# EAGLE library part MAX6966 (library maxim)
10-Port Constant-Current LED Drivers and I/O Expanders with PWM Intensity Control
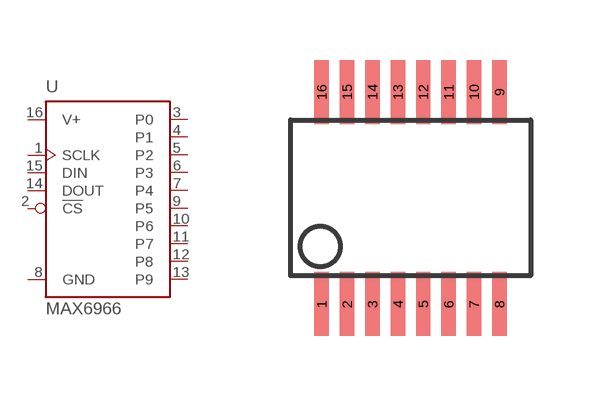
[diagram p1: symbol with the pads of QSOP-16; footprint QSOP-16]

Designator prefix U

## MAX6966AEE+ (DISTRIBUTOR: RS; ORDER_CODE: 786-1247)  [QSOP-16]
1  SCLK  in
2  !CS  in
3  P0  pas
4  P1  pas
5  P2  pas
6  P3  pas
7  P4  pas
8  GND  pwr
9  P5  pas
10  P6  pas
11  P7  pas
12  P8  pas
13  P9  pas
14  DOUT  out
15  DIN  in
16  V+  pwr

## Footprint QSOP-16 (pad centres in mm)
smd 0.36 x 1.6: 1 -2.223,-2.655; 2 -1.587,-2.655; 3 -0.953,-2.655; 4 -0.318,-2.655; 5 0.318,-2.655; 6 0.953,-2.655; 7 1.587,-2.655; 8 2.223,-2.655; 9 2.223,2.655; 10 1.587,2.655; 11 0.953,2.655; 12 0.318,2.655; 13 -0.318,2.655; 14 -0.953,2.655; 15 -1.587,2.655; 16 -2.223,2.655